# Altium footprint library TL2575-15IKTTR.PcbLib: 3 footprints
Each footprint in its own frame and in the unit in brackets; x right, y up, seen from the top. Pads: shape width x height; smd on the part's side, far side on the other; paste and mask are expansions set on the pad; w line width, h text height; cw(c..) or ccw(c..) is an arc to the next point about the centre after c.
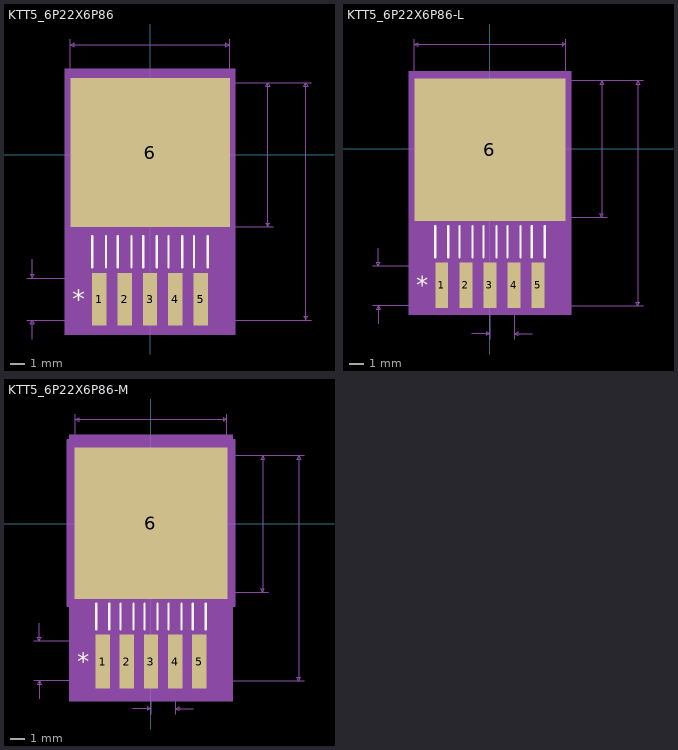
[diagram p0: the footprints below, top view; thin cyan lines are the x and y axes]

## KTT5_6P22X6P86 [mil]
pads (6):
  rect 38x138 smd: 1(-133.86,-380) 2(-66.93,-380) 3(0,-380) 4(66.93,-380) 5(133.86,-380)
  rect 420x392 smd: 6(0,6)
Top Overlay:
  lines w6: -151.86,-297 -151.86,-214 ; -115.86,-297 -115.86,-214 ; -84.93,-297 -84.93,-214 ; -48.93,-297 -48.93,-214 ; -18,-297 -18,-214 ; 18,-297 18,-214 ; 48.93,-297 48.93,-214 ; 84.93,-297 84.93,-214 ; 115.86,-297 115.86,-214 ; 151.86,-297 151.86,-214
  text "*" at -204.82,-405 h50
Mechanical 5:
  region: -225,227 225,227 225,-474 -225,-474
Mechanical 7:
  lines w1: -325,-435 0,-435 425,-435 ; -325,-325 0,-325 ; -310,-485 -310,-435 ; -310,-275 -310,-325 ; -210,0 -210,305 ; 0,-190 325,-190 ; 210,0 210,305 ; 325,190 0,190 425,190 ; -310,-435 -305,-445 -315,-445 -310,-435 ; -310,-325 -305,-315 -315,-315 -310,-325 ; -210,290 -200,285 -200,295 -210,290 ; -210,290 210,290 ; 210,290 200,285 200,295 210,290 ; 310,-190 315,-180 305,-180 310,-190 ; 310,-190 310,190 ; 310,190 315,180 305,180 310,190 ; 410,-435 415,-425 405,-425 410,-435 ; 410,-435 410,190 ; 410,190 415,180 405,180 410,190
  text "0.11in/2.794mm" at -505,-392.5 h25
  text "0.625in/15.875mm" at 430,-202.5 h25
  text "0.42in/10.668mm" at -93.75,310 h25
  text "0.38in/9.652mm" at 330,-12.5 h25
  text "Alt 2 Padstyle: OX90Y60D30P" at -337.5,-810 h50
  text "Alt 1 Padstyle: OX60Y90D30P" at -337.5,-735 h50
  text "Large Padstyle: RX420Y392D0T" at -350,-660 h50
  text "Default Padstyle: RX38Y138D0T" at -362.5,-585 h50
Mechanical 13:
  lines w1: -210,-190 -210,190 210,190 210,-190 -210,-190 ; -151.86,-435 -115.86,-435 -115.86,-190 -151.86,-190 -151.86,-435 ; -84.93,-435 -48.93,-435 -48.93,-190 -84.93,-190 -84.93,-435 ; -18,-435 18,-435 18,-190 -18,-190 -18,-435 ; 48.93,-435 84.93,-435 84.93,-190 48.93,-190 48.93,-435 ; 115.86,-435 151.86,-435 151.86,-190 115.86,-190 115.86,-435
  text "*" at -204.82,-405 h50
Mechanical 15:
  region: 220,-459 -220,-459 -220,212 220,212
  lines w6: -220,-459 220,-459 220,212 -220,212 -220,-459
3D body: height 196.85, standoff 0, extent -215,-195 210,205
3D body: height 10, standoff 0, extent 0,0 10,10

## KTT5_6P22X6P86-L [mil]
pads (6):
  rect 36x126 smd paste+0 mask+0: 1(-133.86,-378) 2(-66.93,-378) 3(0,-378) 4(66.93,-378) 5(133.86,-378)
  rect 420x396 smd paste+0 mask+0: 6(0,-2)
Top Overlay:
  lines w6: -151.86,-301 -151.86,-214 ; -115.86,-301 -115.86,-214 ; -84.93,-301 -84.93,-214 ; -48.93,-301 -48.93,-214 ; -18,-301 -18,-214 ; 18,-301 18,-214 ; 48.93,-301 48.93,-214 ; 84.93,-301 84.93,-214 ; 115.86,-301 115.86,-214 ; 151.86,-301 151.86,-214
  text "*" at -204.82,-403 h50
Mechanical 5:
  region: -225,215 225,215 225,-460 -225,-460
Mechanical 7:
  lines w1: -325,-435 0,-435 425,-435 ; -325,-325 0,-325 ; -310,-485 -310,-435 ; -310,-275 -310,-325 ; -210,0 -210,305 ; -50,-512.5 0,-512.5 ; 0,-527.5 0,-312.5 ; 0,-190 325,-190 ; 66.93,-527.5 66.93,-312.5 ; 116.93,-512.5 66.93,-512.5 ; 210,0 210,305 ; 325,190 0,190 425,190 ; -310,-435 -315,-445 -305,-445 -310,-435 ; -310,-325 -315,-315 -305,-315 -310,-325 ; -210,290 210,290 ; -210,290 -200,295 -200,285 -210,290 ; 0,-512.5 -10,-507.5 -10,-517.5 0,-512.5 ; 66.93,-512.5 76.93,-507.5 76.93,-517.5 66.93,-512.5 ; 210,290 200,295 200,285 210,290 ; 310,-190 310,190 ; 310,-190 305,-180 315,-180 310,-190 ; 310,190 305,180 315,180 310,190 ; 410,-435 410,190 ; 410,-435 405,-425 415,-425 410,-435 ; 410,190 405,180 415,180 410,190
  text "Default Padstyle: RX36Y126D0T" at -362.5,-785 h50
  text "Large Padstyle: RX420Y396D0T" at -350,-860 h50
  text "Alt 1 Padstyle: OX60Y90D30P" at -337.5,-935 h50
  text "Alt 2 Padstyle: OX90Y60D30P" at -337.5,-1010 h50
  text "0.38in/9.652mm" at 330,-12.5 h25
  text "0.42in/10.668mm" at -93.75,310 h25
  text "0.625in/15.875mm" at 430,-200.5 h25
  text "0.11in/2.794mm" at -505,-392.5 h25
  text "0.067in/1.7mm" at -47.79,-557.5 h25
Mechanical 13:
  lines w1: -210,-190 210,-190 210,190 -210,190 -210,-190 ; -151.86,-435 -151.86,-190 -115.86,-190 -115.86,-435 -151.86,-435 ; -84.93,-435 -84.93,-190 -48.93,-190 -48.93,-435 -84.93,-435 ; -18,-435 -18,-190 18,-190 18,-435 -18,-435 ; 48.93,-435 48.93,-190 84.93,-190 84.93,-435 48.93,-435 ; 115.86,-435 115.86,-190 151.86,-190 151.86,-435 115.86,-435
  text "*" at -146.36,-205 h50
Mechanical 15:
  region: -155.86,-204 -214,-204 -214,200 214,200 214,-204 155.86,-204 155.86,-445 -155.86,-445
  lines w6: -214,-204 -214,200 214,200 214,-204 155.86,-204 155.86,-445 -155.86,-445 -155.86,-204 -214,-204
3D body: height 10, standoff 0, extent 0,0 10,10

## KTT5_6P22X6P86-M [mil]
pads (6):
  rect 40x150 smd paste+0 mask+0: 1(-133.86,-382) 2(-66.93,-382) 3(0,-382) 4(66.93,-382) 5(133.86,-382)
  rect 424x420 smd paste+0 mask+0: 6(0,2)
Top Overlay:
  lines w6: -151.86,-293 -151.86,-221.1 ; -115.86,-293 -115.86,-221.1 ; -84.93,-293 -84.93,-221.1 ; -48.93,-293 -48.93,-221.1 ; -18,-293 -18,-221.1 ; 18,-293 18,-221.1 ; 48.93,-293 48.93,-221.1 ; 84.93,-293 84.93,-221.1 ; 115.86,-293 115.86,-221.1 ; 151.86,-293 151.86,-221.1
  text "*" at -204.82,-407 h50
Mechanical 5:
  region: -227,247 227,247 227,-492 -227,-492
Mechanical 7:
  lines w1: -325,-435 0,-435 425,-435 ; -325,-325 0,-325 ; -310,-485 -310,-435 ; -310,-275 -310,-325 ; -210,0 -210,305 ; -50,-512.5 0,-512.5 ; 0,-527.5 0,-312.5 ; 0,-190 325,-190 ; 66.93,-527.5 66.93,-312.5 ; 116.93,-512.5 66.93,-512.5 ; 210,0 210,305 ; 325,190 0,190 425,190 ; -310,-435 -315,-445 -305,-445 -310,-435 ; -310,-325 -315,-315 -305,-315 -310,-325 ; -210,290 210,290 ; -210,290 -200,295 -200,285 -210,290 ; 0,-512.5 -10,-507.5 -10,-517.5 0,-512.5 ; 66.93,-512.5 76.93,-507.5 76.93,-517.5 66.93,-512.5 ; 210,290 200,295 200,285 210,290 ; 310,-190 310,190 ; 310,-190 305,-180 315,-180 310,-190 ; 310,190 305,180 315,180 310,190 ; 410,-435 410,190 ; 410,-435 405,-425 415,-425 410,-435 ; 410,190 405,180 415,180 410,190
  text "Default Padstyle: RX40Y150D0T" at -362.5,-785 h50
  text "Large Padstyle: RX424Y420D0T" at -350,-860 h50
  text "Alt 1 Padstyle: OX60Y90D30P" at -337.5,-935 h50
  text "Alt 2 Padstyle: OX90Y60D30P" at -337.5,-1010 h50
  text "0.38in/9.652mm" at 330,-12.5 h25
  text "0.42in/10.668mm" at -93.75,310 h25
  text "0.625in/15.875mm" at 430,-204.5 h25
  text "0.11in/2.794mm" at -505,-392.5 h25
  text "0.067in/1.7mm" at -47.79,-557.5 h25
Mechanical 13:
  lines w1: -210,-190 210,-190 210,190 -210,190 -210,-190 ; -151.86,-435 -151.86,-190 -115.86,-190 -115.86,-435 -151.86,-435 ; -84.93,-435 -84.93,-190 -48.93,-190 -48.93,-435 -84.93,-435 ; -18,-435 -18,-190 18,-190 18,-435 -18,-435 ; 48.93,-435 48.93,-190 84.93,-190 84.93,-435 48.93,-435 ; 115.86,-435 115.86,-190 151.86,-190 151.86,-435 115.86,-435
  text "*" at -146.36,-205 h50
Mechanical 15:
  region: -173.86,-228 -232,-228 -232,232 232,232 232,-228 173.86,-228 173.86,-477 -173.86,-477
  lines w6: -232,-228 -232,232 232,232 232,-228 173.86,-228 173.86,-477 -173.86,-477 -173.86,-228 -232,-228
3D body: height 10, standoff 0, extent 0,0 10,10